# EAGLE library part ANTENNA868MHZ (library microbuilder)
868MHz Surface-Mount Antenna Digikey: ANT-868-SP_-ND
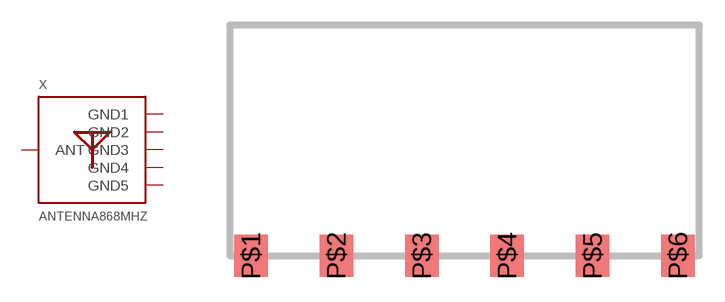
[diagram p48: symbol with the pads of 869MHZANTENNA; footprint 869MHZANTENNA]

Designator prefix X

## ANTENNA868MHZ  [869MHZANTENNA]
P$1  ANT
P$2  GND1  pwr
P$3  GND2  pwr
P$4  GND3  pwr
P$5  GND4  pwr
P$6  GND5  pwr

## Footprint 869MHZANTENNA (pad centres in mm)
smd 2 x 2.5: P$1 -12.7,-6.858; P$2 -7.62,-6.858; P$3 -2.54,-6.858; P$4 2.54,-6.858; P$5 7.62,-6.858; P$6 12.7,-6.858